# Altium footprint library caplib.PcbLib: 2 footprints
Each footprint in its own frame and in the unit in brackets; x right, y up, seen from the top. Pads: shape width x height; smd on the part's side, far side on the other; paste and mask are expansions set on the pad; w line width, h text height; cw(c..) or ccw(c..) is an arc to the next point about the centre after c.
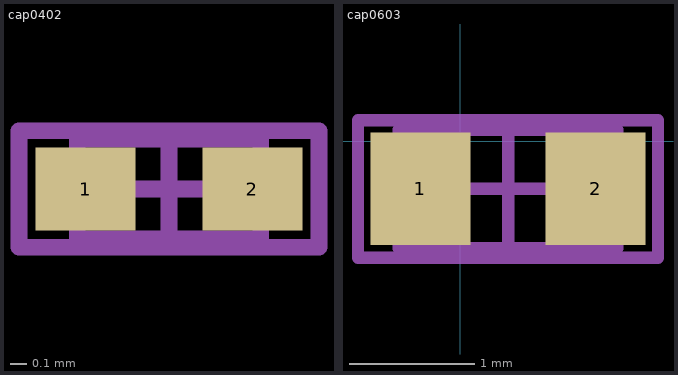
[diagram p0: the footprints below, top view; thin cyan lines are the x and y axes]

## cap0402 [mm]
pads (2):
  rect 0.6x0.5 smd: 1(-133.723,66.294) 2(-132.723,66.294)
Mechanical 13:
  lines w0.1: -133.773,65.994 -132.673,65.994 -132.673,66.594 -133.773,66.594 -133.773,65.994
Mechanical 15:
  lines w0.1: -133.523,66.294 -132.923,66.294 ; -133.223,65.994 -133.223,66.594 ; -134.123,65.944 -132.323,65.944 -132.323,66.644 -134.123,66.644 -134.123,65.944
3D body: height 1.3, standoff 0, extent -133.773,65.994 -132.673,66.594

## cap0603 [mm]
pads (2):
  rect 0.8x0.9 smd: 1(-0.319,-0.381) 2(1.081,-0.381)
Mechanical 13:
  lines w0.1: -0.494,-0.856 -0.494,0.094 1.256,0.094 1.256,-0.856 -0.494,-0.856
Mechanical 15:
  lines w0.1: -0.094,-0.381 0.856,-0.381 ; 0.381,-0.856 0.381,0.094 ; -0.819,-0.931 -0.819,0.169 1.581,0.169 1.581,-0.931 -0.819,-0.931
3D body: height 1.3, standoff 0, extent -0.494,-0.856 1.256,0.094